# Altium footprint library SEMI.PcbLib: 47 footprints (part 3 of 3)
Each footprint in its own frame and in the unit in brackets; x right, y up, seen from the top. Pads: shape width x height; smd on the part's side, far side on the other; paste and mask are expansions set on the pad; w line width, h text height; cw(c..) or ccw(c..) is an arc to the next point about the centre after c.
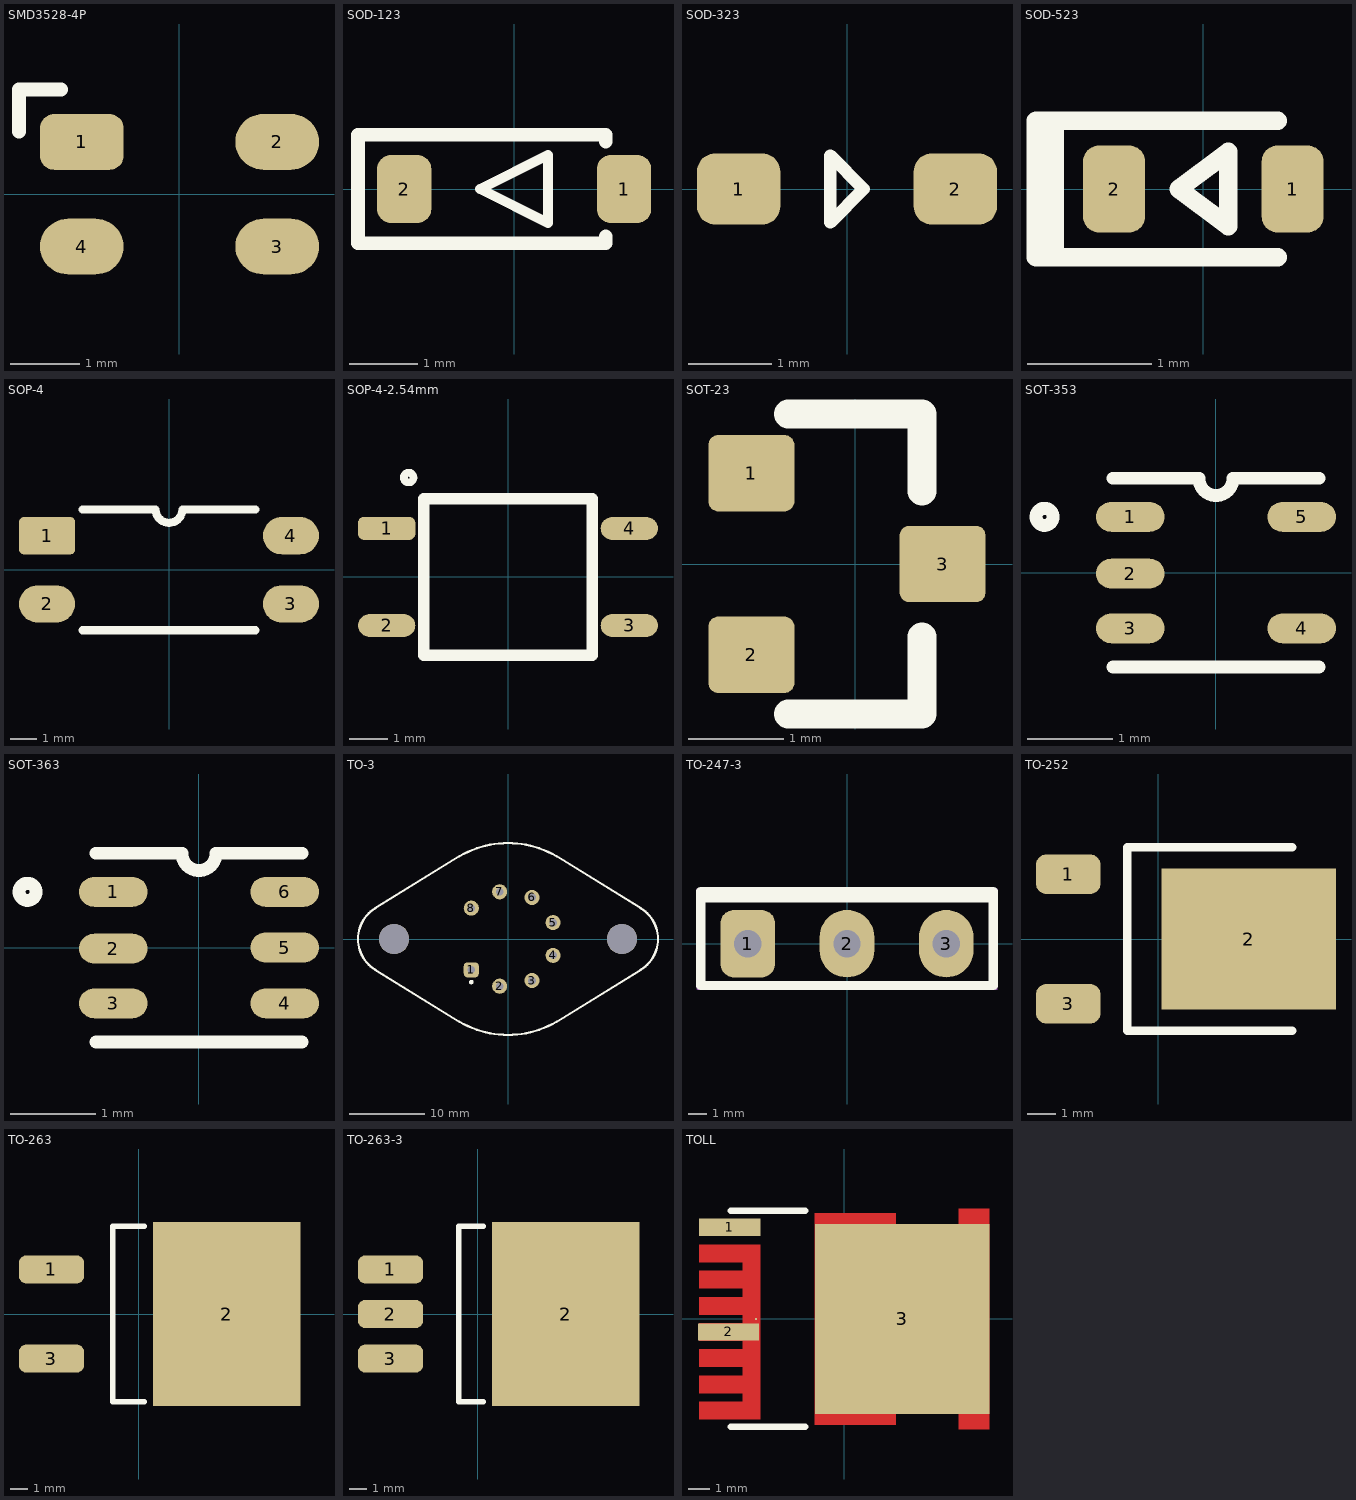
[diagram p2: the footprints below, top view; thin cyan lines are the x and y axes]

## SMD3528-4P [mm]
pads (4):
  rrect50% 1.2x0.8 smd: 1(-1.4,0.75)
  oval 1.2x0.8 smd: 2(1.4,0.75) 3(1.4,-0.75) 4(-1.4,-0.75)
Top Overlay:
  lines w0.2: -2.3,0.9 -2.3,1.5 -1.7,1.5
3D body "LL-R3528RGBC-008-B--3DModel-STEP-56544.STEP": height 2.1, standoff 0, extent -1.75,-1.4 1.75,1.4

## SOD-123 [mm]
pads (2):
  rrect50% 0.8x1 smd paste-0.05: 1(1.62,0) 2(-1.62,0)
Top Overlay:
  lines w0.15: -0.5,0 0.5,-0.5 0.5,0.5 -0.5,0
  lines w0.2: -2.3,-0.75 -2.25,-0.8 ; -2.3,0.75 -2.3,-0.8 1.3,-0.8 ; -2.3,0.8 1.35,0.8 1.35,0.7 ; 1.35,-0.8 1.35,-0.7
3D body "User Library-SOD-123.STEP": height 1.25, standoff 0, extent -1.849,-0.8 1.849,0.8

## SOD-323 [mm]
pads (2):
  rrect50% 1x0.85 smd mask+0.1: 1(-1.3,0) 2(1.3,0)
Top Overlay:
  lines w0.15: -0.2,-0.4 0.2,0 -0.2,0.4 -0.2,-0.4
3D body "step_temp.STEP": height 1.17, standoff 0, extent -1.25,-0.64 1.25,0.64

## SOD-523 [mm]
pads (2):
  rrect50% 0.5x0.7 smd mask+0.1: 1(0.72,0) 2(-0.72,0)
Top Overlay:
  lines w0.15: -1.2,-0.55 -1.2,0.55 ; 0.6,-0.55 -1.35,-0.55 -1.35,0.55 0.6,0.55 ; -0.2,0 0.2,-0.3 0.2,0.3 -0.2,0
3D body "1PS79SB17.STEP": height 0.65, standoff 0, extent -0.8,-0.4 0.8,0.4

## SOP-4 [mm]
pads (4):
  rrect25% 2.09x1.39 smd: 1(-4.54,1.27)
  oval 2.09x1.39 smd: 2(-4.54,-1.27) 3(4.54,-1.27) 4(4.54,1.27)
Top Overlay:
  lines w0.3: -3.225,-2.25 3.225,-2.25 ; -3.225,2.25 -0.5,2.25 ccw(c0,2.25) 0.5,2.24 3.225,2.25
3D body "VOT8024AB-T2.STEP": height 3.78, standoff -0.08, extent -5.08,-2.3 5.08,2.3

## SOP-4-2.54mm [mm]
pads (4):
  rrect50% 1.5x0.6 smd: 1(-3.175,1.27)
  oval 1.5x0.6 smd: 2(-3.175,-1.27) 3(3.175,-1.27) 4(3.175,1.27)
Top Overlay:
  circle w0.2: c-2.6,2.6 r0.127
  lines w0.3: -2.2,-2.05 2.2,-2.05 2.2,2.05 -2.2,2.05 -2.2,-2.05
3D body "SOP-4-2.54mm.STEP": height 2.1, standoff 0, extent -3.4,-2.15 3.4,2.15

## SOT-23 [mm]
pads (3):
  rrect25% 0.9x0.8 smd: 1(-1.085,0.95) 2(-1.085,-0.95) 3(0.915,0)
Top Overlay:
  lines w0.3: -0.7,-1.57 0.7,-1.57 0.7,-0.762 ; -0.7,1.57 0.7,1.57 0.7,0.762
3D body "SOT-23.STEP": height 1.1, standoff 0, extent -1.25,-1.5 1.25,1.5

## SOT-353 [mm]
pads (5):
  oval 0.8x0.35 smd mask+0.1: 1(-1,0.65) 2(-1,-0.012) 3(-1,-0.65) 4(1,-0.65) 5(1,0.65)
Top Overlay:
  circle w0.15: c-2,0.65 r0.1
  lines w0.15: -1.2,-1.1 1.2,-1.1 ; -1.2,1.1 -0.2,1.1 ccw(c0,1.1) 0.2,1.1 1.2,1.1
3D body "SOT-353.STEP": height 0.92, standoff 0.02, extent -1.1,-0.983 1.1,0.983

## SOT-363 [mm]
pads (6):
  oval 0.8x0.35 smd mask+0.1: 1(-1,0.65) 2(-1,-0.012) 3(-1,-0.65) 4(1,-0.65) 5(1,0) 6(1,0.65)
Top Overlay:
  circle w0.15: c-2,0.65 r0.1
  lines w0.15: -1.2,-1.1 1.2,-1.1 ; -1.2,1.1 -0.2,1.1 ccw(c0,1.1) 0.2,1.1 1.2,1.1
3D body "SOT-363.stp": height 0.95, standoff 0, extent -1.05,-1.05 1.05,1.05

## TO-3 [mm]
pads (10):
  rrect50% 2x2 hole 1: 1(-4.86,-4.08)
  round 2 hole 1: 2(-1.1,-6.25) 3(3.18,-5.5) 4(5.97,-2.17) 5(5.97,2.17) 6(3.18,5.5) 7(-1.1,6.25) 8(-4.86,4.08)
  round 4 hole 4 unplated: ""(-15.075,0) ""(15.075,0)
Top Overlay:
  circle w0.3: c-4.86,-5.7 r0.15
  lines w0.3: -17.606,-4.058 cw(c-15.07,0) -17.606,4.058 ; -17.57,-4.08 -6.415,-10.96 ; -17.57,4.08 -6.415,10.96 ; -6.348,-10.999 ccw(c0,-0.004) 6.348,-10.999 ; -6.348,10.999 cw(c0,0.004) 6.348,10.999 ; 6.415,-10.96 17.57,-4.08 ; 6.415,10.96 17.57,4.08 ; 17.606,-4.058 ccw(c15.07,0) 17.606,4.058
3D body "PA96CE--3DModel-STEP-510211.STEP": height 6.35, standoff -12.45, extent -19.431,-12.704 19.431,12.696

## TO-247-3 [mm]
height 25.66
pads (3):
  rrect50% 3x3.7 hole 1.5 mask+0.3: 1(-5.44,0)
  oval 3x3.7 hole 1.5 mask+0.3: 2(0,0) 3(5.44,0)
Top Overlay:
  lines w0.5: -8.015,2.5 8.015,2.5 ; -8.015,-2.29 -8.015,2.87 8.015,2.87 8.015,-2.29 -8.015,-2.29
Mechanical 15:
  lines w0.05: -8.22,-2.502 8.22,-2.502 8.22,3.017 -8.22,3.017 -8.22,-2.502
3D body "TO-247AC_Max_Size_rev1.1.STEP": height 26.4, standoff -2.6, extent -7.95,-2.26 7.95,2.86

## TO-252 [mm]
height 2.4
pads (3):
  rrect50% 2.29x1.4 smd: 1(-3.2,2.3) 3(-3.2,-2.3)
  rect 6.2x5 smd paste-4: 2(3.2,0)
Top Overlay:
  lines w0.3: 4.75,-3.25 -1.1,-3.25 -1.1,3.25 4.75,3.25
Top Paste:
  region: 3,0.2 0.3,0.2 0.3,2.3 3,2.3
  region: 6.1,0.2 3.4,0.2 3.4,2.3 6.1,2.3
  region: 3,-2.3 0.3,-2.3 0.3,-0.2 3,-0.2
  region: 6.1,-2.3 3.4,-2.3 3.4,-0.2 6.1,-0.2
3D body "step_temp.STEP": height 2.39, standoff -0.13, extent -3.953,-3.25 5.953,3.25

## TO-263 [mm]
pads (3):
  rrect50% 3.7x1.6 smd mask+0.3: 1(-4.98,2.54) 3(-4.98,-2.54)
  rect 8.4x10.5 smd paste-5 mask+0.3: 2(5,0)
Top Overlay:
  lines w0.3: 0.3,-5 -1.5,-5 -1.5,5 0.3,5
Top Paste:
  region: 8.49,2.555 6.83,2.555 6.83,3.955 8.49,3.955
  region: 8.49,-3.955 6.83,-3.955 6.83,-2.555 8.49,-2.555
  region: 8.49,-1.785 6.83,-1.785 6.83,-0.385 8.49,-0.385
  region: 8.49,0.385 6.83,0.385 6.83,1.785 8.49,1.785
  region: 3.13,2.555 1.47,2.555 1.47,3.955 3.13,3.955
  region: 3.13,-3.955 1.47,-3.955 1.47,-2.555 3.13,-2.555
  region: 3.13,-1.785 1.47,-1.785 1.47,-0.385 3.13,-0.385
  region: 3.13,0.385 1.47,0.385 1.47,1.785 3.13,1.785
  region: 5.81,2.555 4.15,2.555 4.15,3.955 5.81,3.955
  region: 5.81,-3.955 4.15,-3.955 4.15,-2.555 5.81,-2.555
  region: 5.81,-1.785 4.15,-1.785 4.15,-0.385 5.81,-0.385
  region: 5.81,0.385 4.15,0.385 4.15,1.785 5.81,1.785
3D body "step_temp.STEP": height 4.83, standoff 0, extent -6.15,-5.03 9.09,5.03

## TO-263-3 [mm]
pads (4):
  rrect50% 3.7x1.6 smd mask+0.3: 1(-4.98,2.54) 2(-4.98,0) 3(-4.98,-2.54)
  rect 8.4x10.5 smd paste-5 mask+0.3: 2(5,0)
Top Overlay:
  lines w0.3: 0.3,-5 -1.1,-5 -1.1,5 0.3,5
Top Paste:
  region: 5.81,0.385 4.15,0.385 4.15,1.785 5.81,1.785
  region: 5.81,-1.785 4.15,-1.785 4.15,-0.385 5.81,-0.385
  region: 5.81,-3.955 4.15,-3.955 4.15,-2.555 5.81,-2.555
  region: 5.81,2.555 4.15,2.555 4.15,3.955 5.81,3.955
  region: 3.13,0.385 1.47,0.385 1.47,1.785 3.13,1.785
  region: 3.13,-1.785 1.47,-1.785 1.47,-0.385 3.13,-0.385
  region: 3.13,-3.955 1.47,-3.955 1.47,-2.555 3.13,-2.555
  region: 3.13,2.555 1.47,2.555 1.47,3.955 3.13,3.955
  region: 8.49,0.385 6.83,0.385 6.83,1.785 8.49,1.785
  region: 8.49,-1.785 6.83,-1.785 6.83,-0.385 8.49,-0.385
  region: 8.49,-3.955 6.83,-3.955 6.83,-2.555 8.49,-2.555
  region: 8.49,2.555 6.83,2.555 6.83,3.955 8.49,3.955
3D body "LM1084ISX-3.3_NOPB.STEP": height 4.83, standoff -0.25, extent -6.32,-5.08 8.92,5.08

## TOLL [mm]
height 2.4
pads (5):
  rect 2.8x0.8 smd: 1(-5.25,4.2) 2(-5.3,-0.6)
  rect 0.1x0.1 smd paste-1 mask+0: 2(-4.05,0) 3(0,0)
  rect 8x8.7 smd: 3(2.65,0)
Top Layer:
  region: 6.65,-5.05 5.25,-5.05 5.25,-4.35 2.35,-4.35 2.35,-4.85 -1.35,-4.85 -1.35,4.85 2.35,4.85 2.35,4.35 5.25,4.35 5.25,5.05 6.65,5.05
  region: -3.85,-4.6 -6.65,-4.6 -6.65,-3.8 -4.65,-3.8 -4.65,-3.4 -6.65,-3.4 -6.65,-2.6 -4.65,-2.6 -4.65,-2.2 -6.65,-2.2 -6.65,-1.4 -4.65,-1.4 -4.65,-1 -6.65,-1 -6.65,-0.2 -4.65,-0.2 -4.65,0.2 -6.65,0.2 -6.65,1 -4.65,1 -4.65,1.4 -6.65,1.4 -6.65,2.2 -4.65,2.2 -4.65,2.6 -6.65,2.6 -6.65,3.4 -3.85,3.4
Top Overlay:
  lines w0.3: -5.2,-4.95 -1.8,-4.95 ; -5.2,4.95 -1.8,4.95
Top Paste:
  region: 6.145,-3.975 4.495,-3.975 4.495,-2.565 6.145,-2.565
  region: 6.145,-1.795 4.495,-1.795 4.495,-0.385 6.145,-0.385
  region: 6.145,2.565 4.495,2.565 4.495,3.975 6.145,3.975
  region: 6.145,0.385 4.495,0.385 4.495,1.795 6.145,1.795
  region: 0.805,-3.975 -0.845,-3.975 -0.845,-2.565 0.805,-2.565
  region: 0.805,-1.795 -0.845,-1.795 -0.845,-0.385 0.805,-0.385
  region: 0.805,2.565 -0.845,2.565 -0.845,3.975 0.805,3.975
  region: 0.805,0.385 -0.845,0.385 -0.845,1.795 0.805,1.795
  region: 3.475,-3.975 1.825,-3.975 1.825,-2.565 3.475,-2.565
  region: 3.475,-1.795 1.825,-1.795 1.825,-0.385 3.475,-0.385
  region: 3.475,2.565 1.825,2.565 1.825,3.975 3.475,3.975
  region: 3.475,0.385 1.825,0.385 1.825,1.795 3.475,1.795
  region: -3.85,-4.6 -6.65,-4.6 -6.65,-3.8 -3.85,-3.8
  region: -3.85,-3.4 -6.65,-3.4 -6.65,-2.6 -3.85,-2.6
  region: -3.85,-2.2 -6.65,-2.2 -6.65,-1.4 -3.85,-1.4
  region: -3.85,-1 -6.65,-1 -6.65,-0.2 -3.85,-0.2
  region: -3.85,0.2 -6.65,0.2 -6.65,1 -3.85,1
  region: -3.85,1.4 -6.65,1.4 -6.65,2.2 -3.85,2.2
  region: -3.85,2.6 -6.65,2.6 -6.65,3.4 -3.85,3.4
Top Solder:
  region: 6.75,-5.15 5.15,-5.15 5.15,-4.45 2.45,-4.45 2.45,-4.95 -1.45,-4.95 -1.45,4.95 2.45,4.95 2.45,4.45 5.15,4.45 5.15,5.15 6.75,5.15
  region: -3.75,-4.7 -6.75,-4.7 -6.75,-3.7 -4.75,-3.7 -4.75,-3.5 -6.75,-3.5 -6.75,-2.5 -4.75,-2.5 -4.75,-2.3 -6.75,-2.3 -6.75,-1.3 -4.75,-1.3 -4.75,-1.1 -6.75,-1.1 -6.75,-0.1 -4.75,-0.1 -4.75,0.1 -6.75,0.1 -6.75,1.1 -4.75,1.1 -4.75,1.3 -6.75,1.3 -6.75,2.3 -4.75,2.3 -4.75,2.5 -6.75,2.5 -6.75,3.5 -3.75,3.5
3D body "step_temp.STEP": height 2.31, standoff 0, extent -5.79,-4.95 5.89,4.95